# EAGLE library part TPD4E004DRYR (library TPD4E004DRYR)
4-Channel ESD Protection Array for High-Speed Data Interfaces 6-SON -40 to 85
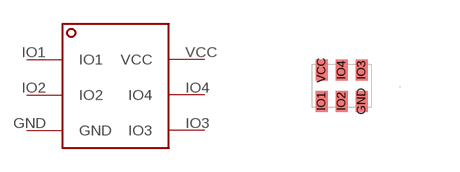
[diagram p0: symbol with the pads of SON-6; footprint SON-6]

Designator prefix -

## TPD4E004DRYR (Availability: Good; Description: 4-Channel ESD Protection Array for High-Speed Data Interfaces 6-SON -40 to 85; MF: Texas Instruments; MP: TPD4E004DRYR; Package: SON-6 Texas Instruments; Price: 0.48 USD)  [SON-6]
GND  GND
IO1  IO1
IO2  IO2
IO3  IO3
IO4  IO4
VCC  VCC

## Footprint SON-6 (pad centres in mm)
4-Channel ESD Protection Array for High-Speed Data Interfaces 6-SON -40 to 85
smd 0.3 x 0.52: GND 1.25,0.135; IO1 0.25,0.135; IO2 0.75,0.135; IO3 1.25,0.915; IO4 0.75,0.915; VCC 0.25,0.915